# Altium footprint library 海关全向控制器主控板V4.PcbLib: 27 footprints (part 1 of 2)
Each footprint in its own frame and in the unit in brackets; x right, y up, seen from the top. Pads: shape width x height; smd on the part's side, far side on the other; paste and mask are expansions set on the pad; w line width, h text height; cw(c..) or ccw(c..) is an arc to the next point about the centre after c.
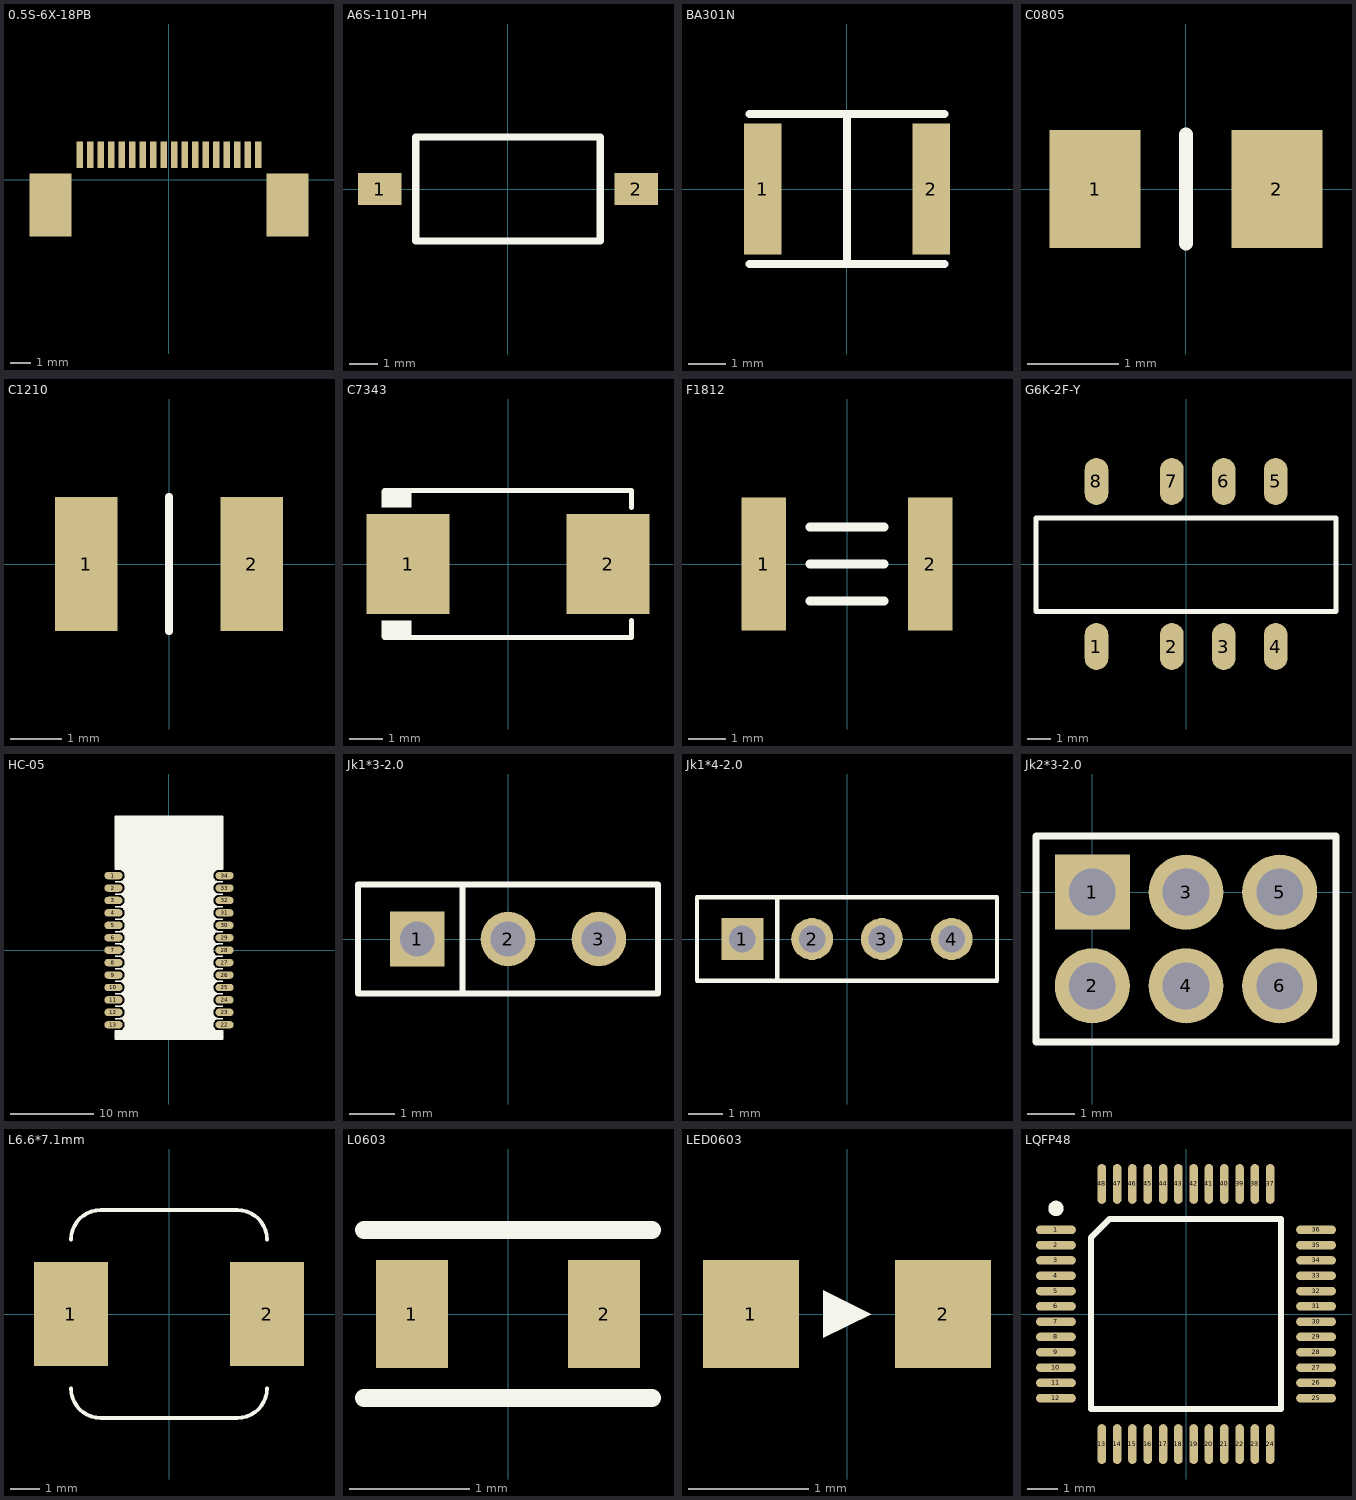
[diagram p0: the footprints below, top view; thin cyan lines are the x and y axes]

## 0.5S-6X-18PB [mm]
pads (20):
  rect 0.3x1.25 smd: 1(-4.25,1.2) 2(-3.75,1.2) 3(-3.25,1.2) 4(-2.75,1.2) 5(-2.25,1.2) 6(-1.75,1.2) 7(-1.25,1.2) 8(-0.75,1.2) 9(-0.25,1.2) 10(0.25,1.2) 11(0.75,1.2) 12(1.25,1.2) 13(1.75,1.2) 14(2.25,1.2) 15(2.75,1.2) 16(3.25,1.2) 17(3.75,1.2) 18(4.25,1.2)
  rect 2x3 smd: ""(-5.65,-1.2) ""(5.65,-1.2)
3D body: height 1.27, standoff -0.03, extent -5.75,-2.75 5.75,1

## A6S-1101-PH [mm] "1位表贴拨码开关2.54mm间距"
height 3
pads (2):
  rect 1.5x1.1 smd: 1(-4.45,0) 2(4.45,0)
Top Overlay:
  lines w0.254: -3.2,-1.8 -3.2,1.8 3.2,1.8 3.2,-1.8 -3.2,-1.8
3D body: height 3.4, standoff 0.05, extent -4.9,-1.92 4.9,1.92

## BA301N [mm]
height 2.7
pads (2):
  rect 1x3.5 smd: 1(-2.25,0) 2(2.25,0)
Top Overlay:
  lines w0.203: -2.6,-2 2.6,-2 ; -2.6,2 2.6,2 ; 0,-2 0,2

## C0805 [mm]
height 1.25
pads (2):
  rect 1x1.3 smd: 1(-1,0) 2(1,0)
Top Overlay:
  lines w0.152: 0,-0.6 0,0.6
3D body: height 0.8, standoff 0, extent -1,-0.625 1,0.625

## C1210 [mm]
height 2.8
pads (2):
  rect 1.2x2.6 smd: 1(-1.6,0) 2(1.6,0)
Top Overlay:
  lines w0.152: 0,-1.3 0,1.3
3D body: height 0.95, standoff 0, extent -1.6,-1.25 1.6,1.25

## C7343 [mm] "100uF/25V"
height 4.2
pads (2):
  rect 2.5x3 smd: 1(-3,0) 2(3,0)
Top Overlay:
  rectangle: -3.8,1.7 -2.9,2.2
  rectangle: -3.8,-2.2 -2.9,-1.7
  lines w0.152: -3.7,-2.2 3.7,-2.2 3.7,-1.7 ; -3.7,2.2 3.7,2.2 3.7,1.7
3D body: height 2.9, standoff 0, extent -3.874,-2.15 3.875,2.15

## F1812 [mm]
height 0.42
pads (2):
  rect 1.2x3.6 smd: 1(-2.25,0) 2(2.25,0)
Top Overlay:
  lines w0.254: -1,-1 1,-1 ; -1,0 1,0 ; -1,1 1,1
3D body: height 0.42, standoff -0.02, extent -2.25,-1.65 2.25,1.65

## G6K-2F-Y [mm]
pads (8):
  oval 1x2 smd: 1(-3.8,-3.5) 2(-0.6,-3.5) 3(1.6,-3.5) 4(3.8,-3.5) 5(3.8,3.5) 6(1.6,3.5) 7(-0.6,3.5) 8(-3.8,3.5)
Top Overlay:
  lines w0.203: -6.365,-2.012 -6.365,1.951 6.36,1.951 6.36,-2.012 -6.365,-2.012
3D body: height 5.4, standoff 0, extent -6.364,-3.829 6.436,3.971

## HC-05 [mm] "HC-05 蓝牙串口通信模块"
height 2
pads (26):
  oval 2.2x0.9 smd: 1(-6.7,9) 2(-6.7,7.5) 3(-6.7,6) 4(-6.7,4.5) 5(-6.7,3) 6(-6.7,1.5) 7(-6.7,0) 8(-6.7,-1.5) 9(-6.7,-3) 10(-6.7,-4.5) 11(-6.7,-6) 12(-6.7,-7.5) 13(-6.7,-9) 22(6.7,-9) 23(6.7,-7.5) 24(6.7,-6) 25(6.7,-4.5) 26(6.7,-3) 27(6.7,-1.5) 28(6.7,0) 29(6.7,1.5) 30(6.7,3) 31(6.7,4.5) 32(6.7,6) 33(6.7,7.5) 34(6.7,9)
Top Overlay:
  region: 5.675,-9.75 5.675,-9.6 5.475,-9.6 5.475,-9.75
  region: 5.475,-9.75 5.475,-9.425 5.3,-9.425 5.3,-9.75
  region: -5.475,-9.75 -5.475,-9.6 -5.675,-9.6 -5.675,-9.75
  region: -5.3,-9.75 -5.3,-9.425 -5.475,-9.425 -5.475,-9.75
  region: 5.3,-9.75 5.3,9.75 -5.3,9.75 -5.3,-9.75
  region: 6.5,9.75 6.5,16.15 -6.5,16.15 -6.5,9.75
  region: 6.5,-10.75 6.5,-9.75 -6.5,-9.75 -6.5,-10.75
  region: 5.66,9.59 5.66,9.91 5.4,9.91 5.4,9.59
  region: 5.425,9.4 5.425,10.1 5.275,10.1 5.275,9.4
  region: 5.66,8.09 5.66,8.41 5.4,8.41 5.4,8.09
  region: 5.425,7.9 5.425,8.6 5.275,8.6 5.275,7.9
  region: 5.66,6.59 5.66,6.91 5.4,6.91 5.4,6.59
  region: 5.425,6.4 5.425,7.1 5.275,7.1 5.275,6.4
  region: 5.66,5.09 5.66,5.41 5.4,5.41 5.4,5.09
  region: 5.425,4.9 5.425,5.6 5.275,5.6 5.275,4.9
  region: 5.66,3.59 5.66,3.91 5.4,3.91 5.4,3.59
  region: 5.425,3.4 5.425,4.1 5.275,4.1 5.275,3.4
  region: 5.66,2.09 5.66,2.41 5.4,2.41 5.4,2.09
  region: 5.425,1.9 5.425,2.6 5.275,2.6 5.275,1.9
  region: 5.66,0.59 5.66,0.91 5.4,0.91 5.4,0.59
  region: 5.425,0.4 5.425,1.1 5.275,1.1 5.275,0.4
  region: 5.66,-0.91 5.66,-0.59 5.4,-0.59 5.4,-0.91
  region: 5.425,-1.1 5.425,-0.4 5.275,-0.4 5.275,-1.1
  region: 5.66,-2.41 5.66,-2.09 5.4,-2.09 5.4,-2.41
  region: 5.425,-2.6 5.425,-1.9 5.275,-1.9 5.275,-2.6
  region: 5.66,-3.91 5.66,-3.59 5.4,-3.59 5.4,-3.91
  region: 5.425,-4.1 5.425,-3.4 5.275,-3.4 5.275,-4.1
  region: 5.66,-5.41 5.66,-5.09 5.4,-5.09 5.4,-5.41
  region: 5.425,-5.6 5.425,-4.9 5.275,-4.9 5.275,-5.6
  region: 5.66,-6.91 5.66,-6.59 5.4,-6.59 5.4,-6.91
  region: 5.425,-7.1 5.425,-6.4 5.275,-6.4 5.275,-7.1
  region: 5.66,-8.41 5.66,-8.09 5.4,-8.09 5.4,-8.41
  region: 5.425,-8.6 5.425,-7.9 5.275,-7.9 5.275,-8.6
  region: -5.4,9.59 -5.4,9.91 -5.66,9.91 -5.66,9.59
  region: -5.275,9.4 -5.275,10.1 -5.425,10.1 -5.425,9.4
  region: -5.4,8.09 -5.4,8.41 -5.66,8.41 -5.66,8.09
  region: -5.275,7.9 -5.275,8.6 -5.425,8.6 -5.425,7.9
  region: -5.4,6.59 -5.4,6.91 -5.66,6.91 -5.66,6.59
  region: -5.275,6.4 -5.275,7.1 -5.425,7.1 -5.425,6.4
  region: -5.4,5.09 -5.4,5.41 -5.66,5.41 -5.66,5.09
  region: -5.275,4.9 -5.275,5.6 -5.425,5.6 -5.425,4.9
  region: -5.4,3.59 -5.4,3.91 -5.66,3.91 -5.66,3.59
  region: -5.275,3.4 -5.275,4.1 -5.425,4.1 -5.425,3.4
  region: -5.4,2.09 -5.4,2.41 -5.66,2.41 -5.66,2.09
  region: -5.275,1.9 -5.275,2.6 -5.425,2.6 -5.425,1.9
  region: -5.4,0.59 -5.4,0.91 -5.66,0.91 -5.66,0.59
  region: -5.275,0.4 -5.275,1.1 -5.425,1.1 -5.425,0.4
  region: -5.4,-0.91 -5.4,-0.59 -5.66,-0.59 -5.66,-0.91
  region: -5.275,-1.1 -5.275,-0.4 -5.425,-0.4 -5.425,-1.1
  region: -5.4,-2.41 -5.4,-2.09 -5.66,-2.09 -5.66,-2.41
  region: -5.275,-2.6 -5.275,-1.9 -5.425,-1.9 -5.425,-2.6
  region: -5.4,-3.91 -5.4,-3.59 -5.66,-3.59 -5.66,-3.91
  region: -5.275,-4.1 -5.275,-3.4 -5.425,-3.4 -5.425,-4.1
  region: -5.4,-5.41 -5.4,-5.09 -5.66,-5.09 -5.66,-5.41
  region: -5.275,-5.6 -5.275,-4.9 -5.425,-4.9 -5.425,-5.6
  region: -5.4,-6.91 -5.4,-6.59 -5.66,-6.59 -5.66,-6.91
  region: -5.275,-7.1 -5.275,-6.4 -5.425,-6.4 -5.425,-7.1
  region: -5.4,-8.41 -5.4,-8.09 -5.66,-8.09 -5.66,-8.41
  region: -5.275,-8.6 -5.275,-7.9 -5.425,-7.9 -5.425,-8.6
  lines w0.152: 5.85,-8.25 6.5,-8.25 6,-8.25 ; 5.85,9.75 6.5,9.75 6.5,16.15 -6.5,16.15 -6.5,9.75 -6,9.75 cw(c-6,9) -6,8.25 ; 6,9.75 ccw(c6,9) 6,8.25 ccw(c6,7.5) 6,6.75 ccw(c6,6) 6,5.25 ccw(c6,4.5) 6,3.75 ccw(c6,3) 6,2.25 ccw(c6,1.5) 6,0.75 ccw(c6,0) 6,-0.75 ccw(c6,-1.5) 6,-2.25 ccw(c6,-3) 6,-3.75 ccw(c6,-4.5) 6,-5.25 ccw(c6,-6) 6,-6.75 ccw(c6,-7.5) 6,-8.25 ; -6,-8.25 cw(c-6,-9) -6,-9.75 -6.5,-9.75 -6.5,-10.75 6.5,-10.75 6.5,-9.75 6,-9.75 cw(c6,-9) 6,-8.25 ; -6,-8.25 ccw(c-6,-7.5) -6,-6.75 ; -6,-8.25 -6.5,-8.25 -6,-8.25 ; -6,-6.75 ccw(c-6,-6) -6,-5.25 ; -6,-6.75 -6.5,-6.75 -6,-6.75 ; -6,-5.25 ccw(c-6,-4.5) -6,-3.75 ; -6,-5.25 -6.5,-5.25 -6,-5.25 ; -6,-3.75 ccw(c-6,-3) -6,-2.25 ; -6,-3.75 -6.5,-3.75 -6,-3.75 ; -6,-2.25 ccw(c-6,-1.5) -6,-0.75 ; -6,-2.25 -6.5,-2.25 -6,-2.25 ; -6,-0.75 ccw(c-6,0) -6,0.75 ; -6,-0.75 -6.5,-0.75 -6,-0.75 ; -6,0.75 ccw(c-6,1.5) -6,2.25 ; -6,0.75 -6.5,0.75 -6,0.75 ; -6,2.25 ccw(c-6,3) -6,3.75 ; -6,2.25 -6.5,2.25 -6,2.25 ; -6,3.75 ccw(c-6,4.5) -6,5.25 ; -6,3.75 -6.5,3.75 -6,3.75 ; -6,5.25 ccw(c-6,6) -6,6.75 ; -6,5.25 -6.5,5.25 -6,5.25 ; -6,6.75 ccw(c-6,7.5) -6,8.25 ; -6,6.75 -6.5,6.75 -6,6.75 ; -6,8.25 -6.5,8.25 -6,8.25 ; 5.85,-6.75 6.5,-6.75 5.85,-6.75 ; 5.85,-5.25 6.5,-5.25 5.85,-5.25 ; 5.85,-3.75 6.5,-3.75 5.85,-3.75 ; 5.85,-2.25 6.5,-2.25 5.85,-2.25 ; 5.85,-0.75 6.5,-0.75 5.85,-0.75 ; 5.85,0.75 6.5,0.75 5.85,0.75 ; 5.85,2.25 6.5,2.25 5.85,2.25 ; 5.85,3.75 6.5,3.75 5.85,3.75 ; 5.85,5.25 6.5,5.25 5.85,5.25 ; 5.85,6.75 6.5,6.75 5.85,6.75 ; 5.85,8.25 6.5,8.25 5.85,8.25

## Jk1*3-2.0 [mm]
pads (3):
  rect 1.2x1.2 hole 0.762: 1(-2,0)
  round 1.2 hole 0.762: 2(0,0) 3(2,0)
Top Overlay:
  lines w0.127: -1,-1.2 -1,1.2 ; -3.3,-1.2 -3.3,1.2 3.3,1.2 3.3,-1.2 -3.3,-1.2

## Jk1*4-2.0 [mm] "4P，直插，2.0mm间距，排母"
height 4.3
pads (4):
  rect 1.2x1.2 hole 0.762: 1(-3,0)
  round 1.2 hole 0.762: 2(-1,0) 3(1,0) 4(3,0)
Top Overlay:
  lines w0.127: -2,-1.2 -2,1.2 ; -4.3,-1.2 -4.3,1.2 4.3,1.2 4.3,-1.2 -4.3,-1.2
3D body: height 4.3, standoff -3, extent -4.25,-1.225 4.25,1.175

## Jk2*3-2.0 [mm] "2.0双排座2*3-直"
height 4.6
pads (6):
  rect 1.6x1.6 hole 1: 1(0,0)
  round 1.6 hole 1: 2(0,-2) 3(2,0) 4(2,-2) 5(4,0) 6(4,-2)
Top Overlay:
  lines w0.152: -1.2,-3.2 -1.2,1.2 5.2,1.2 5.2,-3.2 -1.2,-3.2
3D body: height 4.4, standoff -2.75, extent -1.025,-3.26 4.975,1.25

## L6.6*7.1mm [mm] "AMPI0630ED"
height 3
pads (2):
  rect 2.5x3.5 smd: 1(-3.3,0) 2(3.3,0)
Top Overlay:
  lines w0.127: -3.3,-2.5 ccw(c-2.3,-2.5) -2.3,-3.5 2.3,-3.5 ccw(c2.3,-2.5) 3.3,-2.5 ; -3.3,2.5 cw(c-2.3,2.5) -2.3,3.5 2.3,3.5 cw(c2.3,2.5) 3.3,2.5
3D body: height 3.13, standoff 0.05, extent -3.65,-3.35 3.65,3.35

## L0603 [mm]
pads (2):
  rect 0.6x0.9 smd: 1(-0.8,0) 2(0.8,0)
Top Overlay:
  lines w0.152: -1.2,-0.7 1.2,-0.7 ; -1.2,0.7 1.2,0.7
3D body: height 0.8, standoff 0, extent -0.8,-0.475 0.8,0.475

## LED0603 [mm]
height 1
pads (2):
  rect 0.8x0.9 smd: 1(-0.8,0) 2(0.8,0)
Top Overlay:
  region: -0.2,0.2 -0.2,-0.2 0.2,0
3D body: height 0.6, standoff 0, extent -0.8,-0.4 0.8,0.4

## LQFP48 [mm]
height 1.6
pads (48):
  oval 1.3x0.28 smd: 1(-4.25,2.75) 2(-4.25,2.25) 3(-4.25,1.75) 4(-4.25,1.25) 5(-4.25,0.75) 6(-4.25,0.25) 7(-4.25,-0.25) 8(-4.25,-0.75) 9(-4.25,-1.25) 10(-4.25,-1.75) 11(-4.25,-2.25) 12(-4.25,-2.75) 25(4.25,-2.75) 26(4.25,-2.25) 27(4.25,-1.75) 28(4.25,-1.25) 29(4.25,-0.75) 30(4.25,-0.25) 31(4.25,0.25) 32(4.25,0.75) 33(4.25,1.25) 34(4.25,1.75) 35(4.25,2.25) 36(4.25,2.75)
  oval 0.28x1.3 smd: 13(-2.75,-4.25) 14(-2.25,-4.25) 15(-1.75,-4.25) 16(-1.25,-4.25) 17(-0.75,-4.25) 18(-0.25,-4.25) 19(0.25,-4.25) 20(0.75,-4.25) 21(1.25,-4.25) 22(1.75,-4.25) 23(2.25,-4.25) 24(2.75,-4.25) 37(2.75,4.25) 38(2.25,4.25) 39(1.75,4.25) 40(1.25,4.25) 41(0.75,4.25) 42(0.25,4.25) 43(-0.25,4.25) 44(-0.75,4.25) 45(-1.25,4.25) 46(-1.75,4.25) 47(-2.25,4.25) 48(-2.75,4.25)
Top Overlay:
  circle w0.25: c-4.25,3.45 r0.125
  lines w0.203: -3.1,-3.1 3.1,-3.1 3.1,3.1 -2.5,3.1 -3.1,2.5 -3.1,-3.1
3D body: height 1.8, standoff -0.01, extent -4.495,-4.5 4.505,4.5